# EAGLE library part LMC555 (library water)
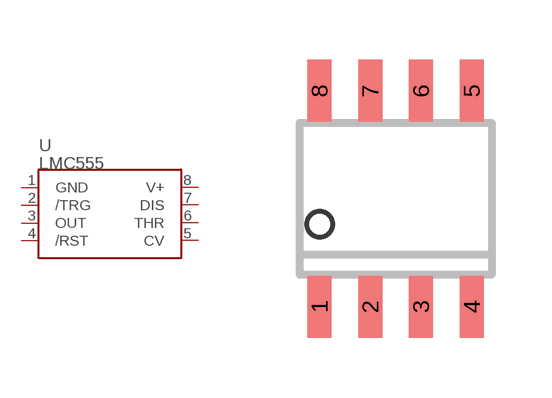
[diagram p1: symbol with the pads of SO8; footprint SO8]

Designator prefix U

## LMC555  [SO8]
1  GND
2  /TRG
3  OUT
4  /RST
5  CV
6  THR
7  DIS
8  V+

## Footprint SO8 (pad centres in mm)
smd 0.6 x 1.55: 1 -1.905,-2.7; 2 -0.635,-2.7; 3 0.635,-2.7; 4 1.905,-2.7; 5 1.905,2.7; 6 0.635,2.7; 7 -0.635,2.7; 8 -1.905,2.7